# Altium footprint library Miscellaneous.PcbLib: 71 footprints (part 2 of 5)
Each footprint in its own frame and in the unit in brackets; x right, y up, seen from the top. Pads: shape width x height; smd on the part's side, far side on the other; paste and mask are expansions set on the pad; w line width, h text height; cw(c..) or ccw(c..) is an arc to the next point about the centre after c.
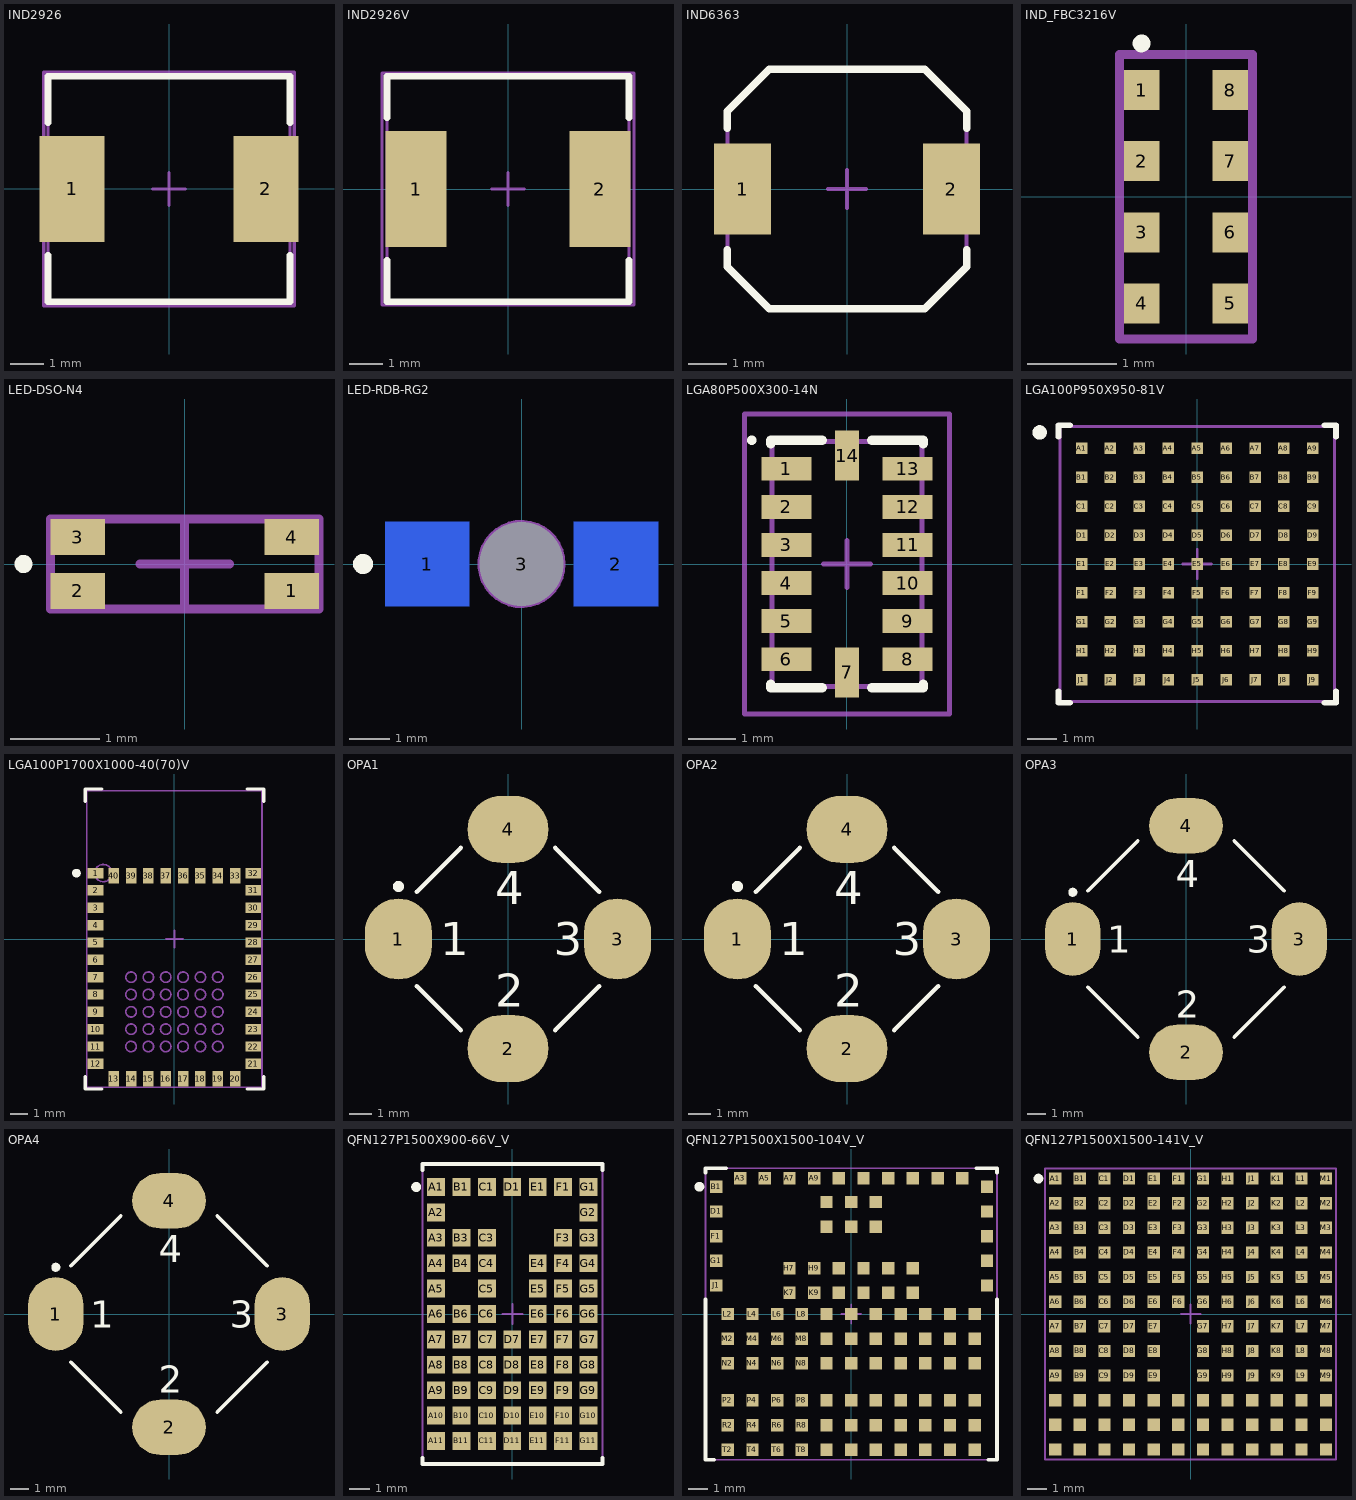
[diagram p1: the footprints below, top view; thin cyan lines are the x and y axes]

## IND2926 [mm] "SM Inductor; 2 Leads; Body 7.3x6.6mm (LxW)"
height 3
pads (2):
  rect 1.95x3.2 smd: 1(-2.925,0) 2(2.925,0)
Top Overlay:
  lines w0.2: -3.65,-2 -3.65,-3.4 3.65,-3.4 3.65,-2 ; -3.65,2 -3.65,3.4 3.65,3.4 3.65,2
Mechanical 13:
  lines w0.1: -3.65,-3.4 -3.65,3.4 3.65,3.4 3.65,-3.4 -3.65,-3.4
Mechanical 15:
  lines w0.1: -0.5,0 0.5,0 ; 0,-0.5 0,0.5 ; -3.775,-3.525 -3.775,3.525 3.775,3.525 3.775,-3.525 -3.775,-3.525
3D body: height 3, standoff 0, extent -3.65,-3.4 3.65,3.4
3D body: height 3, standoff 0, extent 0,0 0,0

## IND2926V [mm] "SM Inductor; 2 Leads; Body 7.3x6.6mm (LxW), SSM Recommended"
height 3
pads (2):
  rect 1.85x3.5 smd: 1(-2.775,0) 2(2.775,0)
Top Overlay:
  lines w0.2: -3.65,-2.15 -3.65,-3.4 3.65,-3.4 3.65,-2.15 ; -3.65,2.15 -3.65,3.4 3.65,3.4 3.65,2.15
Mechanical 13:
  lines w0.1: -3.65,-3.4 -3.65,3.4 3.65,3.4 3.65,-3.4 -3.65,-3.4
Mechanical 15:
  lines w0.1: -0.5,0 0.5,0 ; 0,-0.5 0,0.5 ; -3.8,-3.5 3.8,-3.5 3.8,3.5 -3.8,3.5 -3.8,-3.5
3D body: height 3, standoff 0, extent -3.65,-3.4 3.65,3.4
3D body: height 3, standoff 0, extent 0,0 0,0

## IND6363 [mm] "SM Inductor; 2 Leads; Body 6.3x6.3mm (LxW)"
height 3
pads (2):
  rect 1.5x2.4 smd: 1(-2.75,0) 2(2.75,0)
Top Overlay:
  lines w0.2: -3.15,-1.6 -3.15,-2.05 -2.05,-3.15 2.05,-3.15 3.15,-2.05 3.15,-1.6 ; -3.15,1.6 -3.15,2.05 -2.05,3.15 2.05,3.15 3.15,2.05 3.15,1.6
Mechanical 13:
  lines w0.1: -3.15,-2.05 -3.15,2.05 -2.05,3.15 2.05,3.15 3.15,2.05 3.15,-2.05 2.05,-3.15 -2.05,-3.15 -3.15,-2.05
Mechanical 15:
  lines w0.1: -0.5,0 0.5,0 ; 0,-0.5 0,0.5
3D body: height 3, standoff 0, extent -3.151,-3.151 3.151,3.151

## IND_FBC3216V [mm] "Chip Ferrite Bead Array, 4-Line; SM; 8 Leads; Body 3.2x1.5mm (LxW typ)"
height 0.9
pads (8):
  rect 0.4x0.45 smd: 1(-0.5,1.2) 2(-0.5,0.4) 3(-0.5,-0.4) 4(-0.5,-1.2) 5(0.5,-1.2) 6(0.5,-0.4) 7(0.5,0.4) 8(0.5,1.2)
Top Overlay:
  circle w0.1: c-0.5,1.725 r0.05
Mechanical 13:
  lines w0.1: -0.75,-1.6 -0.75,1.6 0.75,1.6 0.75,-1.6 -0.75,-1.6
3D body: height 0.9, standoff 0, extent -0.749,-1.599 0.749,1.599

## LED-DSO-N4 [mm] "SM RGB LED; 4-Leads; Body 3 x 1 mm (1204-size)"
height 2.25
pads (4):
  rect 0.61x0.4 smd: 1(1.195,-0.3) 2(-1.195,-0.3) 3(-1.195,0.3) 4(1.195,0.3)
Top Overlay:
  circle w0.1: c-1.8,0 r0.05
Mechanical 13:
  lines w0.1: -1.5,-0.5 -1.5,0.5 1.5,0.5 1.5,-0.5 -1.5,-0.5
Mechanical 15:
  lines w0.1: -0.5,0 0.5,0 ; 0,-0.5 0,0.5
3D body: height 2.25, standoff 0, extent -1.499,-0.508 1.499,0.491

## LED-RDB-RG2 [mm] "LED; 2 Leads, Body 1.9x0.875mm (Dia.xH), Reverse Mount"
height -0.25
pads (3):
  rect 2.1x2.1 smd far side paste+0 mask+0: 1(-2.35,0) 2(2.35,0)
  round 1.8 hole 2.1 unplated: 3(0,0)
Top Overlay:
  circle w0.25: c-3.95,0 r0.125
Bottom Paste:
  region: -1.3,1.05 -3.4,1.05 -3.4,-1.05 -1.3,-1.05 -1.3,-0.725 -1.8,-0.725 -1.8,-0.025 -1.3,-0.025
  region: 3.4,1.05 1.3,1.05 1.3,0.725 1.8,0.725 1.8,0.025 1.3,0.025 1.3,-1.05 3.4,-1.05
Bottom Solder:
  region: -1.3,1.05 -3.4,1.05 -3.4,-1.05 -1.3,-1.05 -1.3,-0.725 -1.8,-0.725 -1.8,-0.025 -1.3,-0.025
  region: 3.4,1.05 1.3,1.05 1.3,0.725 1.8,0.725 1.8,0.025 1.3,0.025 1.3,-1.05 3.4,-1.05
Mechanical 13:
  circle w0.1: c0,0 r1.05
3D body: height -0.25, standoff -1.1, extent -1.059,-1.059 1.059,1.059

## LGA80P500X300-14N [mm] "LGA, 14-Leads, Body 3x5x0.92mm, Pitch 0.8mm, IPC Medium Density"
height 1
pads (14):
  rect 1.05x0.5 smd: 1(-1.275,2) 2(-1.275,1.2) 3(-1.275,0.4) 4(-1.275,-0.4) 5(-1.275,-1.2) 6(-1.275,-2) 8(1.275,-2) 9(1.275,-1.2) 10(1.275,-0.4) 11(1.275,0.4) 12(1.275,1.2) 13(1.275,2)
  rect 0.5x1.05 smd: 7(0,-2.275) 14(0,2.275)
Top Overlay:
  circle w0.1: c-2,2.6 r0.05
  lines w0.2: -1.6,-2.525 -1.6,-2.6 -0.525,-2.6 ; -1.6,2.525 -1.6,2.6 -0.525,2.6 ; 0.525,-2.6 1.6,-2.6 1.6,-2.525 ; 0.525,2.6 1.6,2.6 1.6,2.525
Mechanical 13:
  lines w0.1: -1.575,-2.575 -1.575,2.575 1.575,2.575 1.575,-2.575 -1.575,-2.575
Mechanical 15:
  lines w0.1: -0.5,0 0.5,0 ; 0,-0.5 0,0.5 ; -2.15,-3.15 -2.15,3.15 2.15,3.15 2.15,-3.15 -2.15,-3.15
3D body: height 1, standoff 0.18, extent -1.575,-2.575 1.575,2.575

## LGA100P950X950-81V [mm] "Lead Grid Array, 81-Leads, Body 9.5x9.5mm, Pitch 1mm"
height 1.4
pads (81):
  rect 0.4x0.4 smd: A1(-4,4) A2(-3,4) A3(-2,4) A4(-1,4) A5(0,4) A6(1,4) A7(2,4) A8(3,4) A9(4,4) B1(-4,3) B2(-3,3) B3(-2,3) B4(-1,3) B5(0,3) B6(1,3) B7(2,3) B8(3,3) B9(4,3) C1(-4,2) C2(-3,2) C3(-2,2) C4(-1,2) C5(0,2) C6(1,2) C7(2,2) C8(3,2) C9(4,2) D1(-4,1) D2(-3,1) D3(-2,1) D4(-1,1) D5(0,1) D6(1,1) D7(2,1) D8(3,1) D9(4,1) E1(-4,0) E2(-3,0) E3(-2,0) E4(-1,0) E5(0,0) E6(1,0) E7(2,0) E8(3,0) E9(4,0) F1(-4,-1) F2(-3,-1) F3(-2,-1) F4(-1,-1) F5(0,-1) F6(1,-1) F7(2,-1) F8(3,-1) F9(4,-1) G1(-4,-2) G2(-3,-2) G3(-2,-2) G4(-1,-2) G5(0,-2) G6(1,-2) G7(2,-2) G8(3,-2) G9(4,-2) H1(-4,-3) H2(-3,-3) H3(-2,-3) H4(-1,-3) H5(0,-3) H6(1,-3) H7(2,-3) H8(3,-3) H9(4,-3) J1(-4,-4) J2(-3,-4) J3(-2,-4) J4(-1,-4) J5(0,-4) J6(1,-4) J7(2,-4) J8(3,-4) J9(4,-4)
Top Overlay:
  circle w0.25: c-5.45,4.55 r0.125
  lines w0.2: -4.8,-4.4 -4.8,-4.8 -4.4,-4.8 ; -4.8,4.4 -4.8,4.8 -4.4,4.8 ; 4.4,-4.8 4.8,-4.8 4.8,-4.4 ; 4.4,4.8 4.8,4.8 4.8,4.4
Mechanical 13:
  lines w0.1: -4.75,-4.75 4.75,-4.75 4.75,4.75 -4.75,4.75 -4.75,-4.75
Mechanical 15:
  lines w0.1: -0.5,0 0.5,0 ; 0,-0.5 0,0.5
3D body: height 1.4, standoff 0, extent -4.749,-4.749 4.749,4.749

## LGA100P1700X1000-40(70)V [mm] "Lead Grid Array, 70-Leads (30 Absent), Body 17x10mm, Pitch 1mm, NSC Recommended"
height 2.1
pads (40):
  rect 0.9x0.6 smd: 1(-4.55,3.8) 2(-4.55,2.8) 3(-4.55,1.8) 4(-4.55,0.8) 5(-4.55,-0.2) 6(-4.55,-1.2) 7(-4.55,-2.2) 8(-4.55,-3.2) 9(-4.55,-4.2) 10(-4.55,-5.2) 11(-4.55,-6.2) 12(-4.55,-7.2) 21(4.55,-7.2) 22(4.55,-6.2) 23(4.55,-5.2) 24(4.55,-4.2) 25(4.55,-3.2) 26(4.55,-2.2) 27(4.55,-1.2) 28(4.55,-0.2) 29(4.55,0.8) 30(4.55,1.8) 31(4.55,2.8) 32(4.55,3.8)
  rect 0.6x0.9 smd: 13(-3.5,-8.05) 14(-2.5,-8.05) 15(-1.5,-8.05) 16(-0.5,-8.05) 17(0.5,-8.05) 18(1.5,-8.05) 19(2.5,-8.05) 20(3.5,-8.05) 33(3.5,3.65) 34(2.5,3.65) 35(1.5,3.65) 36(0.5,3.65) 37(-0.5,3.65) 38(-1.5,3.65) 39(-2.5,3.65) 40(-3.5,3.65)
Top Overlay:
  circle w0.25: c-5.65,3.8 r0.125
  lines w0.2: -5.15,-7.947 -5.15,-8.65 -4.2,-8.65 ; -5.15,7.947 -5.15,8.65 -4.2,8.65 ; 4.2,-8.65 5.15,-8.65 5.15,-7.947 ; 4.2,8.65 5.15,8.65 5.15,7.947
Mechanical 13:
  circle w0.1: c-2.5,-6.2 r0.3
  circle w0.1: c-1.5,-6.2 r0.3
  circle w0.1: c-0.5,-6.2 r0.3
  circle w0.1: c0.5,-6.2 r0.3
  circle w0.1: c1.5,-6.2 r0.3
  circle w0.1: c2.5,-6.2 r0.3
  circle w0.1: c2.5,-5.2 r0.3
  circle w0.1: c1.5,-5.2 r0.3
  circle w0.1: c0.5,-5.2 r0.3
  circle w0.1: c-0.5,-5.2 r0.3
  circle w0.1: c-1.5,-5.2 r0.3
  circle w0.1: c-2.5,-5.2 r0.3
  circle w0.1: c2.5,-4.2 r0.3
  circle w0.1: c1.5,-4.2 r0.3
  circle w0.1: c0.5,-4.2 r0.3
  circle w0.1: c-0.5,-4.2 r0.3
  circle w0.1: c-1.5,-4.2 r0.3
  circle w0.1: c-2.5,-4.2 r0.3
  circle w0.1: c2.5,-3.2 r0.3
  circle w0.1: c1.5,-3.2 r0.3
  circle w0.1: c0.5,-3.2 r0.3
  circle w0.1: c-0.5,-3.2 r0.3
  circle w0.1: c-1.5,-3.2 r0.3
  circle w0.1: c-2.5,-3.2 r0.3
  circle w0.1: c2.5,-2.2 r0.3
  circle w0.1: c1.5,-2.2 r0.3
  circle w0.1: c0.5,-2.2 r0.3
  circle w0.1: c-0.5,-2.2 r0.3
  circle w0.1: c-1.5,-2.2 r0.3
  circle w0.1: c-2.5,-2.2 r0.3
  circle w0.1: c-4.1,3.8 r0.5
  lines w0.1: -5.05,-8.55 5.05,-8.55 5.05,8.55 -5.05,8.55 -5.05,-8.55
Mechanical 15:
  lines w0.1: -0.5,0 0.5,0 ; 0,-0.5 0,0.5
3D body: height 2.1, standoff 0, extent -5.05,-8.55 5.05,8.55

## OPA1 [mm] "SM Inductor/Transformer; 4 Leads; Body 8.89 x 8.89 x 4.19 mm (LxWxH)"
height 4.19
pads (4):
  oval 3.05x3.68 smd: 1(-4.98,0) 3(4.98,0)
  oval 3.68x3.05 smd: 2(0,-4.98) 4(0,4.98)
Top Overlay:
  circle w0.25: c-4.98,2.39 r0.125
  lines w0.2: -4.145,-2.14 -2.14,-4.145 ; -4.145,2.14 -2.14,4.145 ; 2.14,-4.145 4.145,-2.14 ; 2.14,4.145 4.145,2.14
  text "1" at -3.08,-0.75 h1.5
  text "2" at -0.575,-3.08 h1.5
  text "4" at -0.575,1.58 h1.5
  text "3" at 2.08,-0.75 h1.5

## OPA2 [mm] "SM Inductor/Transformer; 4 Leads; Body 8.89 x 8.89 x 5.97 mm (LxWxH)"
height 5.97
pads (4):
  oval 3.05x3.68 smd: 1(-4.98,0) 3(4.98,0)
  oval 3.68x3.05 smd: 2(0,-4.98) 4(0,4.98)
Top Overlay:
  circle w0.25: c-4.98,2.39 r0.125
  lines w0.2: -4.145,-2.14 -2.14,-4.145 ; -4.145,2.14 -2.14,4.145 ; 2.14,-4.145 4.145,-2.14 ; 2.14,4.145 4.145,2.14
  text "1" at -3.08,-0.75 h1.5
  text "2" at -0.575,-3.08 h1.5
  text "4" at -0.575,1.58 h1.5
  text "3" at 2.08,-0.75 h1.5

## OPA3 [mm] "SM Inductor/Transformer; 4 Leads; Body 11.43 x 11.43 x 4.83 mm (LxWxH)"
height 4.83
pads (4):
  oval 3.05x4.06 smd: 1(-6.25,0) 3(6.25,0)
  oval 4.06x3.05 smd: 2(0,-6.25) 4(0,6.25)
Top Overlay:
  circle w0.25: c-6.25,2.58 r0.125
  lines w0.2: -5.415,-2.66 -2.66,-5.415 ; -5.415,2.66 -2.66,5.415 ; 2.66,-5.415 5.415,-2.66 ; 2.66,5.415 5.415,2.66
  text "1" at -4.35,-0.75 h1.5
  text "4" at -0.575,2.85 h1.5
  text "2" at -0.575,-4.35 h1.5
  text "3" at 3.35,-0.75 h1.5

## OPA4 [mm] "SM Inductor/Transformer; 4 Leads; Body 11.43 x 11.43 x 6.35 mm (LxWxH)"
height 6.35
pads (4):
  oval 3.05x4.06 smd: 1(-6.25,0) 3(6.25,0)
  oval 4.06x3.05 smd: 2(0,-6.25) 4(0,6.25)
Top Overlay:
  circle w0.25: c-6.25,2.58 r0.125
  lines w0.2: -5.415,-2.66 -2.66,-5.415 ; -5.415,2.66 -2.66,5.415 ; 2.66,-5.415 5.415,-2.66 ; 2.66,5.415 5.415,2.66
  text "3" at 3.35,-0.75 h1.5
  text "2" at -0.575,-4.35 h1.5
  text "4" at -0.575,2.85 h1.5
  text "1" at -4.35,-0.75 h1.5

## QFN127P1500X900-66V_V [mil] "QFN, 66-Leads, Body 15x9mm, Pitch 1.27mm, Linear Technology Recommended"
height 96.46
pads (66):
  rect 35x35 smd: A1(-150,250) A2(-150,200) A3(-150,150) A4(-150,100) A5(-150,50) A6(-150,0) A7(-150,-50) A8(-150,-100) A9(-150,-150) A10(-150,-200) A11(-150,-250) B1(-100,250) B3(-100,150) B4(-100,100) B6(-100,0) B7(-100,-50) B8(-100,-100) B9(-100,-150) B10(-100,-200) B11(-100,-250) C1(-50,250) C3(-50,150) C4(-50,100) C5(-50,50) C6(-50,0) C7(-50,-50) C8(-50,-100) C9(-50,-150) C10(-50,-200) C11(-50,-250) D1(0,250) D7(0,-50) D8(0,-100) D9(0,-150) D10(0,-200) D11(0,-250) E1(50,250) E4(50,100) E5(50,50) E6(50,0) E7(50,-50) E8(50,-100) E9(50,-150) E10(50,-200) E11(50,-250) F1(100,250) F3(100,150) F4(100,100) F5(100,50) F6(100,0) F7(100,-50) F8(100,-100) F9(100,-150) F10(100,-200) F11(100,-250) G1(150,250) G2(150,200) G3(150,150) G4(150,100) G5(150,50) G6(150,0) G7(150,-50) G8(150,-100) G9(150,-150) G10(150,-200) G11(150,-250)
Top Overlay:
  circle w9.84: c-189.15,250 r4.92
  lines w7.87: -177.17,-283.25 -177.17,-295.28 177.17,-295.28 177.17,-283.25 ; -177.17,283.25 -177.17,295.28 177.17,295.28 177.17,283.25
Mechanical 13:
  lines w3.94: -177.17,-295.28 -177.17,295.28 177.17,295.28 177.17,-295.28 -177.17,-295.28
Mechanical 15:
  lines w3.94: -19.69,0 19.68,0 ; 0,-19.68 0,19.69
3D body: height 96.46, standoff 0, extent -177.15,-295.26 177.15,295.26

## QFN127P1500X1500-104V_V [mm] "QFN, 104-Leads, Body 15x15mm, Pitch 1.27mm, Linear Technology Recommended"
height 2.92
pads (104):
  rect 0.635x0.635 smd: A3(-5.716,6.989) A5(-4.446,6.989) A7(-3.176,6.989) A9(-1.906,6.989) A11(-0.636,6.989) A13(0.634,6.989) A15(1.904,6.989) A17(3.174,6.989) A19(4.444,6.989) A21(5.714,6.989) B1(-6.942,6.548) B23(6.987,6.548) C10(-1.27,5.765) C12(0,5.765) C14(1.27,5.765) D1(-6.942,5.278) D23(6.987,5.278) E10(-1.27,4.495) E12(0,4.495) E14(1.27,4.495) F1(-6.942,4.008) F23(6.987,4.008) G1(-6.942,2.738) G23(6.987,2.738) H7(-3.176,2.36) H9(-1.906,2.36) H11(-0.636,2.36) H13(0.634,2.36) H15(1.904,2.36) H17(3.174,2.36) J1(-6.942,1.468) J23(6.987,1.468) K7(-3.176,1.09) K9(-1.906,1.09) K11(-0.636,1.09) K13(0.634,1.09) K15(1.904,1.09) K17(3.174,1.09) L2(-6.35,0) L4(-5.08,0) L6(-3.81,0) L8(-2.54,0) L10(-1.27,0) L12(0,0) L14(1.27,0) L16(2.54,0) L18(3.81,0) L20(5.08,0) L22(6.35,0) M2(-6.35,-1.27) M4(-5.08,-1.27) M6(-3.81,-1.27) M8(-2.54,-1.27) M10(-1.27,-1.27) M12(0,-1.27) M14(1.27,-1.27) M16(2.54,-1.27) M18(3.81,-1.27) M20(5.08,-1.27) M22(6.35,-1.27) N2(-6.35,-2.54) N4(-5.08,-2.54) N6(-3.81,-2.54) N8(-2.54,-2.54) N10(-1.27,-2.54) N12(0,-2.54) N14(1.27,-2.54) N16(2.54,-2.54) N18(3.81,-2.54) N20(5.08,-2.54) N22(6.35,-2.54) P2(-6.35,-4.445) P4(-5.08,-4.445) P6(-3.81,-4.445) P8(-2.54,-4.445) P10(-1.27,-4.445) P12(0,-4.445) P14(1.27,-4.445) P16(2.54,-4.445) P18(3.81,-4.445) P20(5.08,-4.445) P22(6.35,-4.445) R2(-6.35,-5.715) R4(-5.08,-5.715) R6(-3.81,-5.715) R8(-2.54,-5.715) R10(-1.27,-5.715) R12(0,-5.715) R14(1.27,-5.715) R16(2.54,-5.715) R18(3.81,-5.715) R20(5.08,-5.715) R22(6.35,-5.715) T2(-6.35,-6.985) T4(-5.08,-6.985) T6(-3.81,-6.985) T8(-2.54,-6.985) T10(-1.27,-6.985) T12(0,-6.985) T14(1.27,-6.985) T16(2.54,-6.985) T18(3.81,-6.985) T20(5.08,-6.985) T22(6.35,-6.985)
Top Overlay:
  circle w0.25: c-7.81,6.548 r0.125
  lines w0.2: -7.5,0.75 -7.5,-7.5 -7.067,-7.5 ; -7.5,7.265 -7.5,7.5 -6.433,7.5 ; 6.432,7.5 7.5,7.5 7.5,7.265 ; 7.067,-7.5 7.5,-7.5 7.5,0.75
Mechanical 13:
  lines w0.1: -7.5,-7.5 7.5,-7.5 7.5,7.5 -7.5,7.5 -7.5,-7.5
Mechanical 15:
  lines w0.1: -0.5,0 0.5,0 ; 0,-0.5 0,0.5
3D body: height 2.92, standoff 0, extent -7.499,-7.499 7.499,7.499

## QFN127P1500X1500-141V_V [mm] "QFN, 141-Leads, Body 15x15mm, Pitch 1.27mm, Linear Technology Recommended"
height 2.92
pads (141):
  rect 0.63x0.63 smd: A1(-6.985,6.985) A2(-6.985,5.715) A3(-6.985,4.445) A4(-6.985,3.175) A5(-6.985,1.905) A6(-6.985,0.635) A7(-6.985,-0.635) A8(-6.985,-1.905) A9(-6.985,-3.175) A10(-6.985,-4.445) A11(-6.985,-5.715) A12(-6.985,-6.985) B1(-5.715,6.985) B2(-5.715,5.715) B3(-5.715,4.445) B4(-5.715,3.175) B5(-5.715,1.905) B6(-5.715,0.635) B7(-5.715,-0.635) B8(-5.715,-1.905) B9(-5.715,-3.175) B10(-5.715,-4.445) B11(-5.715,-5.715) B12(-5.715,-6.985) C1(-4.445,6.985) C2(-4.445,5.715) C3(-4.445,4.445) C4(-4.445,3.175) C5(-4.445,1.905) C6(-4.445,0.635) C7(-4.445,-0.635) C8(-4.445,-1.905) C9(-4.445,-3.175) C10(-4.445,-4.445) C11(-4.445,-5.715) C12(-4.445,-6.985) D1(-3.175,6.985) D2(-3.175,5.715) D3(-3.175,4.445) D4(-3.175,3.175) D5(-3.175,1.905) D6(-3.175,0.635) D7(-3.175,-0.635) D8(-3.175,-1.905) D9(-3.175,-3.175) D10(-3.175,-4.445) D11(-3.175,-5.715) D12(-3.175,-6.985) E1(-1.905,6.985) E2(-1.905,5.715) E3(-1.905,4.445) E4(-1.905,3.175) E5(-1.905,1.905) E6(-1.905,0.635) E7(-1.905,-0.635) E8(-1.905,-1.905) E9(-1.905,-3.175) E10(-1.905,-4.445) E11(-1.905,-5.715) E12(-1.905,-6.985) F1(-0.635,6.985) F2(-0.635,5.715) F3(-0.635,4.445) F4(-0.635,3.175) F5(-0.635,1.905) F6(-0.635,0.635) F10(-0.635,-4.445) F11(-0.635,-5.715) F12(-0.635,-6.985) G1(0.635,6.985) G2(0.635,5.715) G3(0.635,4.445) G4(0.635,3.175) G5(0.635,1.905) G6(0.635,0.635) G7(0.635,-0.635) G8(0.635,-1.905) G9(0.635,-3.175) G10(0.635,-4.445) G11(0.635,-5.715) G12(0.635,-6.985) H1(1.905,6.985) H2(1.905,5.715) H3(1.905,4.445) H4(1.905,3.175) H5(1.905,1.905) H6(1.905,0.635) H7(1.905,-0.635) H8(1.905,-1.905) H9(1.905,-3.175) H10(1.905,-4.445) H11(1.905,-5.715) H12(1.905,-6.985) J1(3.175,6.985) J2(3.175,5.715) J3(3.175,4.445) J4(3.175,3.175) J5(3.175,1.905) J6(3.175,0.635) J7(3.175,-0.635) J8(3.175,-1.905) J9(3.175,-3.175) J10(3.175,-4.445) J11(3.175,-5.715) J12(3.175,-6.985) K1(4.445,6.985) K2(4.445,5.715) K3(4.445,4.445) K4(4.445,3.175) K5(4.445,1.905) K6(4.445,0.635) K7(4.445,-0.635) K8(4.445,-1.905) K9(4.445,-3.175) K10(4.445,-4.445) K11(4.445,-5.715) K12(4.445,-6.985) L1(5.715,6.985) L2(5.715,5.715) L3(5.715,4.445) L4(5.715,3.175) L5(5.715,1.905) L6(5.715,0.635) L7(5.715,-0.635) L8(5.715,-1.905) L9(5.715,-3.175) L10(5.715,-4.445) L11(5.715,-5.715) L12(5.715,-6.985) M1(6.985,6.985) M2(6.985,5.715) M3(6.985,4.445) M4(6.985,3.175) M5(6.985,1.905) M6(6.985,0.635) M7(6.985,-0.635) M8(6.985,-1.905) M9(6.985,-3.175) M10(6.985,-4.445) M11(6.985,-5.715) M12(6.985,-6.985)
Top Overlay:
  circle w0.25: c-7.85,6.985 r0.125
Mechanical 13:
  lines w0.1: -7.5,-7.5 7.5,-7.5 7.5,7.5 -7.5,7.5 -7.5,-7.5
Mechanical 15:
  lines w0.1: -0.5,0 0.5,0 ; 0,-0.5 0,0.5
3D body: height 2.92, standoff 0, extent -7.499,-7.499 7.499,7.499